# Altium integrated library Infineon_Power_MOSFET.IntLib: 1448 symbols (part 3 of 47)
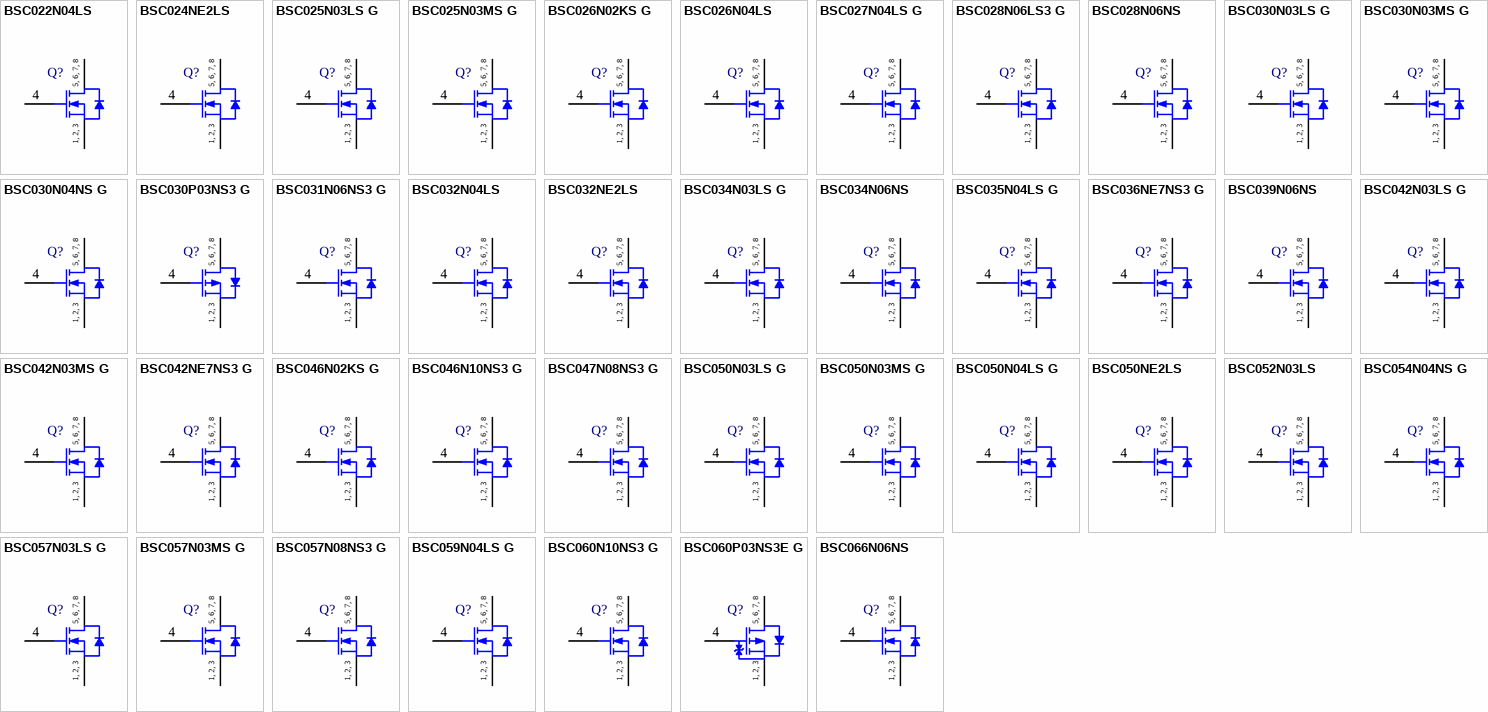
[diagram p39: symbols BSC022N04LS to BSC066N06NS]

## BSC046N02KS G
designator Q?
N-Channel OptiMOS 2 Power-Transistor, 20 V VDS, 80 A ID, -55 to 150 degC, PG-TDSON-8-1, Reel, Green; Manufacturer: Infineon; PartNumber: BSC046N02KS G; Green: TRUE; ID (max): 80 A; IDpuls (max): 200 A; Polarity: N; Ptot (max): 48 W; QG: 21 nC; RDS (on) (max) (@4.5V): 4.6 mOhm; Rth: 2.6 K/W; RthJA (max): 62 K/W; VDS (max): 20 V; VGS(th) (max): 1.2 V; VGS(th) (min): 0.7 V; DatasheetVersion: Rev. 1.06; PackageReference: PG-TDSON-8-1; PackageDescription: 8-Pin Plastic (Green) Thin Dual Small Outline Non-Leaded Package, 5.15 x 5.9 mm Body, 1.27 mm Pitch; Supplier 1: Mouser; Supplier Part Number 1: 726-BSC046N02KSG; Supplier 2: Newark; Supplier Part Number 2: 60R2491; Supplier 3: Farnell; Supplier Part Number 3: 1775442; Supplier 4: Digi-Key; Supplier Part Number 4: BSC046N02KS GTR-ND; Supplier 5: Digi-Key; Supplier Part Number 5: BSC046N02KS GCT-ND; Supplier 6: Digi-Key; Supplier Part Number 6: BSC046N02KS GDKR-ND; Halogen-free: TRUE; Packing: Reel; RthJC (max): 2.6 K/W; Mounting Technology: Surface Mount; ComponentLink1Description: Manufacturer URL; ComponentLink1URL: http://www.infineon.com/; ComponentLink2Description: Datasheet; ComponentLink2URL: http://www.infineon.com/dgdl/BSC046N02KS+G+Rev16.pdf?folderId=db3a3043163797a6011637c252b10018&fileId=db3a3043163797a6011637c34414001c; ComponentLink3Description: Package Specification; ComponentLink3URL: http://www.infineon.com/cms/packages/SMD_-_Surface_Mounted_Devices/P-PG-TDSON/P-PG-TDSON-08-01x_2x_3.html?__locale=en
footprint INF-PG-TDSON-8-1_V (TDSON, 8-Leads, Body 6.15x5.15mm, Pitch 1.27mm)
pins: 1 SOURCE, 2 SOURCE, 3 SOURCE, 4 GATE, 5 DRAIN, 6 DRAIN, 7 DRAIN, 8 DRAIN
text: 5, 6, 7, 8; 1, 2, 3

## BSC046N10NS3 G
designator Q?
N-Channel OptiMOS 3 Power-Transistor, 100 V VDS, 100 A ID, -55 to 150 degC, PG-TDSON-8-1, Reel, Green; Manufacturer: Infineon; PartNumber: BSC046N10NS3 G; Green: TRUE; ID (max): 100 A; IDpuls (max): 400 A; Polarity: N; Ptot (max): 156 W; QG: 63 nC; RDS (on) (max): 4.6 mOhm; Rth: 0.8 K/W; RthJA (max): 62 K/W; VDS (max): 100 V; VGS(th) (max): 3.5 V; VGS(th) (min): 2 V; DatasheetVersion: Rev. 2.0; PackageReference: PG-TDSON-8-1; PackageDescription: 8-Pin Plastic (Green) Thin Dual Small Outline Non-Leaded Package, 5.15 x 5.9 mm Body, 1.27 mm Pitch; Halogen-free: TRUE; Packing: Reel; RthJC (max): 0.8 K/W; Mounting Technology: Surface Mount; ComponentLink1Description: Manufacturer URL; ComponentLink1URL: http://www.infineon.com/; ComponentLink2Description: Datasheet; ComponentLink2URL: http://www.infineon.com/dgdl/BSC046N10NS3+Rev2.pdf?folderId=db3a304313b8b5a60113cee8763b02d7&fileId=db3a304332fc1ee7013316f966a4713c; ComponentLink3Description: Package Specification; ComponentLink3URL: http://www.infineon.com/cms/packages/SMD_-_Surface_Mounted_Devices/P-PG-TDSON/P-PG-TDSON-08-01x_2x_3.html?__locale=en
footprint INF-PG-TDSON-8-1_V (TDSON, 8-Leads, Body 6.15x5.15mm, Pitch 1.27mm)
pins: 1 SOURCE, 2 SOURCE, 3 SOURCE, 4 GATE, 5 DRAIN, 6 DRAIN, 7 DRAIN, 8 DRAIN
text: 5, 6, 7, 8; 1, 2, 3

## BSC047N08NS3 G
designator Q?
N-Channel OptiMOS 3 Power-Transistor, 80 V VDS, 100 A ID, -55 to 150 degC, PG-TDSON-8-1, Reel, Green; Manufacturer: Infineon; PartNumber: BSC047N08NS3 G; Green: TRUE; ID (max): 100 A; IDpuls (max): 400 A; Polarity: N; Ptot (max): 125 W; QG: 52 nC; RDS (on) (max): 4.7 mOhm; Rth: 1 K/W; RthJA (max): 62 K/W; VDS (max): 80 V; VGS(th) (max): 3.5 V; VGS(th) (min): 2 V; DatasheetVersion: Rev. 2.7; PackageReference: PG-TDSON-8-1; PackageDescription: 8-Pin Plastic (Green) Thin Dual Small Outline Non-Leaded Package, 5.15 x 5.9 mm Body, 1.27 mm Pitch; Supplier 1: Mouser; Supplier Part Number 1: 726-BSC047N08NS3G; Supplier 2: Newark; Supplier Part Number 2: 60R2492; Supplier 3: Farnell; Supplier Part Number 3: 1775444; Supplier 4: Digi-Key; Supplier Part Number 4: BSC047N08NS3 GTR-ND; Supplier 5: Digi-Key; Supplier Part Number 5: BSC047N08NS3 GCT-ND; Supplier 6: Digi-Key; Supplier Part Number 6: BSC047N08NS3 GDKR-ND; Halogen-free: TRUE; Packing: Reel; RthJC (max): 1 K/W; Mounting Technology: Surface Mount; ComponentLink1Description: Manufacturer URL; ComponentLink1URL: http://www.infineon.com/; ComponentLink2Description: Datasheet; ComponentLink2URL: http://www.infineon.com/dgdl/BSC047N08NS3G_rev2.7.pdf?folderId=db3a304313b8b5a60113cee7c66a02d6&fileId=db3a30431add1d95011ae7e8dacf5611; ComponentLink3Description: Package Specification; ComponentLink3URL: http://www.infineon.com/cms/packages/SMD_-_Surface_Mounted_Devices/P-PG-TDSON/P-PG-TDSON-08-01x_2x_3.html?__locale=en
footprint INF-PG-TDSON-8-1_V (TDSON, 8-Leads, Body 6.15x5.15mm, Pitch 1.27mm)
pins: 1 SOURCE, 2 SOURCE, 3 SOURCE, 4 GATE, 5 DRAIN, 6 DRAIN, 7 DRAIN, 8 DRAIN
text: 5, 6, 7, 8; 1, 2, 3

## BSC050N03LS G
designator Q?
N-Channel OptiMOS 3 Power-MOSFET, 30 V VDS, 79 A ID, -55 to 150 degC, PG-TDSON-8-1, Reel, Green; Manufacturer: Infineon; PartNumber: BSC050N03LS G; Green: TRUE; ID (max): 79 A; IDpuls (max): 316 A; Polarity: N; Ptot (max): 48 W; QG: 13 nC; RDS (on) (max): 5 mOhm; RDS (on) (max) (@4.5V): 7.5 mOhm; Rth: 2.6 K/W; RthJA (max): 50 K/W; VDS (max): 30 V; VGS(th) (max): 2.2 V; VGS(th) (min): 1 V; DatasheetVersion: Rev. 1.6; PackageReference: PG-TDSON-8-1; PackageDescription: 8-Pin Plastic (Green) Thin Dual Small Outline Non-Leaded Package, 5.15 x 5.9 mm Body, 1.27 mm Pitch; Supplier 1: Mouser; Supplier Part Number 1: 726-BSC050N03LSG; Supplier 2: Newark; Supplier Part Number 2: 60R2493; Supplier 3: Farnell; Supplier Part Number 3: 1775445; Supplier 4: Digi-Key; Supplier Part Number 4: BSC050N03LSGINTR-ND; Supplier 5: Digi-Key; Supplier Part Number 5: BSC050N03LSGINCT-ND; Supplier 6: Digi-Key; Supplier Part Number 6: BSC050N03LSGINDKR-ND; Halogen-free: TRUE; Packing: Reel; RthJC (max): 2.6 K/W; Mounting Technology: Surface Mount; ComponentLink1Description: Manufacturer URL; ComponentLink1URL: http://www.infineon.com/; ComponentLink2Description: Datasheet; ComponentLink2URL: http://www.infineon.com/dgdl/BSC050N03LS_rev1.6.pdf?folderId=db3a304412b407950112b408e8c90004&fileId=db3a304412b407950112b4276b953c2b; ComponentLink3Description: Package Specification; ComponentLink3URL: http://www.infineon.com/cms/packages/SMD_-_Surface_Mounted_Devices/P-PG-TDSON/P-PG-TDSON-08-01x_2x_3.html?__locale=en
footprint INF-PG-TDSON-8-1_V (TDSON, 8-Leads, Body 6.15x5.15mm, Pitch 1.27mm)
pins: 1 SOURCE, 2 SOURCE, 3 SOURCE, 4 GATE, 5 DRAIN, 6 DRAIN, 7 DRAIN, 8 DRAIN
text: 5, 6, 7, 8; 1, 2, 3

## BSC050N03MS G
designator Q?
N-Channel OptiMOS 3 M-Series Power-MOSFET, 30 V VDS, 80 A ID, -55 to 150 degC, PG-TDSON-8-1, Reel, Green; Manufacturer: Infineon; PartNumber: BSC050N03MS G; Green: TRUE; ID (max): 80 A; IDpuls (max): 320 A; Polarity: N; Ptot (max): 50 W; QG: 17 nC; RDS (on) (max): 5 mOhm; RDS (on) (max) (@4.5V): 6.3 mOhm; Rth: 2.5 K/W; RthJA (max): 50 K/W; VDS (max): 30 V; VGS(th) (max): 2 V; VGS(th) (min): 1 V; DatasheetVersion: Rev. 1.15; PackageReference: PG-TDSON-8-1; PackageDescription: 8-Pin Plastic (Green) Thin Dual Small Outline Non-Leaded Package, 5.15 x 5.9 mm Body, 1.27 mm Pitch; Supplier 1: Mouser; Supplier Part Number 1: 726-BSC050N03MSG; Supplier 2: Newark; Supplier Part Number 2: 60R2494; Supplier 3: Farnell; Supplier Part Number 3: 1775446; Supplier 4: Digi-Key; Supplier Part Number 4: BSC050N03MSGINTR-ND; Supplier 5: Digi-Key; Supplier Part Number 5: BSC050N03MSGINCT-ND; Supplier 6: Digi-Key; Supplier Part Number 6: BSC050N03MSGINDKR-ND; Halogen-free: TRUE; Packing: Reel; RthJC (max): 2.5 K/W; Mounting Technology: Surface Mount; ComponentLink1Description: Manufacturer URL; ComponentLink1URL: http://www.infineon.com/; ComponentLink2Description: Datasheet; ComponentLink2URL: http://www.infineon.com/dgdl/BSC050N03MSG_rev1.15.pdf?folderId=db3a304313d846880113d91d60c500c4&fileId=db3a304313d846880113de6677ab0373; ComponentLink3Description: Package Specification; ComponentLink3URL: http://www.infineon.com/cms/packages/SMD_-_Surface_Mounted_Devices/P-PG-TDSON/P-PG-TDSON-08-01x_2x_3.html?__locale=en
footprint INF-PG-TDSON-8-1_V (TDSON, 8-Leads, Body 6.15x5.15mm, Pitch 1.27mm)
pins: 1 SOURCE, 2 SOURCE, 3 SOURCE, 4 GATE, 5 DRAIN, 6 DRAIN, 7 DRAIN, 8 DRAIN
text: 5, 6, 7, 8; 1, 2, 3

## BSC050N04LS G
designator Q?
N-Channel OptiMOS 3 Power-Transistor, 40 V VDS, 85 A ID, -55 to 150 degC, PG-TDSON-8-1, Reel, Green; Manufacturer: Infineon; PartNumber: BSC050N04LS G; Green: TRUE; ID (max): 85 A; IDpuls (max): 340 A; Polarity: N; Ptot (max): 57 W; QG: 36 nC; RDS (on) (max): 5 mOhm; RDS (on) (max) (@4.5V): 7.2 mOhm; Rth: 2.2 K/W; RthJA (max): 50 K/W; VDS (max): 40 V; VGS(th) (max): 2 V; VGS(th) (min): 1.2 V; DatasheetVersion: Rev. 1.04; PackageReference: PG-TDSON-8-1; PackageDescription: 8-Pin Plastic (Green) Thin Dual Small Outline Non-Leaded Package, 5.15 x 5.9 mm Body, 1.27 mm Pitch; Supplier 1: Mouser; Supplier Part Number 1: 726-BSC050N04LSG; Supplier 2: Newark; Supplier Part Number 2: 60R2495; Supplier 3: Digi-Key; Supplier Part Number 3: BSC050N04LS GTR-ND; Supplier 4: Digi-Key; Supplier Part Number 4: BSC050N04LS GCT-ND; Supplier 5: Digi-Key; Supplier Part Number 5: BSC050N04LS GDKR-ND; Halogen-free: TRUE; Packing: Reel; RthJC (max): 2.2 K/W; Mounting Technology: Surface Mount; ComponentLink1Description: Manufacturer URL; ComponentLink1URL: http://www.infineon.com/; ComponentLink2Description: Datasheet; ComponentLink2URL: http://www.infineon.com/dgdl/BSC050N04LSG_rev14.pdf?folderId=db3a3043156fd5730115c7d50620107c&fileId=db3a30431689f4420116c4440ee3081c; ComponentLink3Description: Package Specification; ComponentLink3URL: http://www.infineon.com/cms/packages/SMD_-_Surface_Mounted_Devices/P-PG-TDSON/P-PG-TDSON-08-01x_2x_3.html?__locale=en
footprint INF-PG-TDSON-8-1_V (TDSON, 8-Leads, Body 6.15x5.15mm, Pitch 1.27mm)
pins: 1 SOURCE, 2 SOURCE, 3 SOURCE, 4 GATE, 5 DRAIN, 6 DRAIN, 7 DRAIN, 8 DRAIN
text: 5, 6, 7, 8; 1, 2, 3

## BSC050NE2LS
designator Q?
N-Channel OptiMOS Power-MOSFET, 25 V VDS, 58 A ID, -55 to 150 degC, PG-TDSON-8-1, Reel, Green; Manufacturer: Infineon; PartNumber: BSC050NE2LS; Green: TRUE; ID (max): 58 A; IDpuls (max): 232 A; Polarity: N; Ptot (max): 28 W; QG: 5 nC; RDS (on) (max): 5 mOhm; RDS (on) (max) (@4.5V): 7.1 mOhm; Rth: 4.5 K/W; RthJA (max): 50 K/W; VDS (max): 25 V; VGS(th) (max): 2 V; VGS(th) (min): 1.2 V; DatasheetVersion: Rev. 2.1; PackageReference: PG-TDSON-8-1; PackageDescription: 8-Pin Plastic (Green) Thin Dual Small Outline Non-Leaded Package, 5.15 x 5.9 mm Body, 1.27 mm Pitch; Supplier 1: Mouser; Supplier Part Number 1: 726-BSC050NE2LS; Supplier 2: Digi-Key; Supplier Part Number 2: BSC050NE2LSTR-ND; Supplier 3: Digi-Key; Supplier Part Number 3: BSC050NE2LSCT-ND; Supplier 4: Digi-Key; Supplier Part Number 4: BSC050NE2LSDKR-ND; Halogen-free: TRUE; Packing: Reel; RthJC (max): 4.5 K/W; Mounting Technology: Surface Mount; ComponentLink1Description: Manufacturer URL; ComponentLink1URL: http://www.infineon.com/; ComponentLink2Description: Datasheet; ComponentLink2URL: http://www.infineon.com/dgdl/BSC050NE2LS_Rev+2.1_.pdf?folderId=db3a304326dfb1300126fb3bec803f1a&fileId=db3a304326dfb1300126fb5ce0cb3f2d; ComponentLink3Description: Package Specification; ComponentLink3URL: http://www.infineon.com/cms/packages/SMD_-_Surface_Mounted_Devices/P-PG-TDSON/P-PG-TDSON-08-01x_2x_3.html?__locale=en
footprint INF-PG-TDSON-8-1_V (TDSON, 8-Leads, Body 6.15x5.15mm, Pitch 1.27mm)
pins: 1 SOURCE, 2 SOURCE, 3 SOURCE, 4 GATE, 5 DRAIN, 6 DRAIN, 7 DRAIN, 8 DRAIN
text: 5, 6, 7, 8; 1, 2, 3

## BSC052N03LS
designator Q?
N-Channel OptiMOS Power-MOSFET, 30 V VDS, 57 A ID, -55 to 150 degC, PG-TDSON-8-1, Reel, Green; Manufacturer: Infineon; PartNumber: BSC052N03LS; Green: TRUE; ID (max): 57 A; IDpuls (max): 228 A; Polarity: N; Ptot (max): 28 W; QG: 5.9 nC; RDS (on) (max): 5.2 mOhm; RDS (on) (max) (@4.5V): 7.2 mOhm; Rth: 4.5 K/W; RthJA (max): 50 K/W; VDS (max): 30 V; VGS(th) (max): 2 V; VGS(th) (min): 1.2 V; DatasheetVersion: Rev. 2.1; PackageReference: PG-TDSON-8-1; PackageDescription: 8-Pin Plastic (Green) Thin Dual Small Outline Non-Leaded Package, 5.15 x 5.9 mm Body, 1.27 mm Pitch; Supplier 1: Mouser; Supplier Part Number 1: 726-BSC052N03LS; Supplier 2: Digi-Key; Supplier Part Number 2: BSC052N03LSTR-ND; Supplier 3: Digi-Key; Supplier Part Number 3: BSC052N03LSCT-ND; Supplier 4: Digi-Key; Supplier Part Number 4: BSC052N03LSDKR-ND; Halogen-free: TRUE; Packing: Reel; RthJC (max): 4.5 K/W; Mounting Technology: Surface Mount; ComponentLink1Description: Manufacturer URL; ComponentLink1URL: http://www.infineon.com/; ComponentLink2Description: Datasheet; ComponentLink2URL: http://www.infineon.com/dgdl/BSC052N03LS_Rev+2.1.pdf?folderId=db3a304313b8b5a60113cee8763b02d7&fileId=db3a30432c64a60d012cbc1084350363; ComponentLink3Description: Package Specification; ComponentLink3URL: http://www.infineon.com/cms/packages/SMD_-_Surface_Mounted_Devices/P-PG-TDSON/P-PG-TDSON-08-01x_2x_3.html?__locale=en
footprint INF-PG-TDSON-8-1_V (TDSON, 8-Leads, Body 6.15x5.15mm, Pitch 1.27mm)
pins: 1 SOURCE, 2 SOURCE, 3 SOURCE, 4 GATE, 5 DRAIN, 6 DRAIN, 7 DRAIN, 8 DRAIN
text: 5, 6, 7, 8; 1, 2, 3

## BSC054N04NS G
designator Q?
N-Channel OptiMOS 3 Power-Transistor, 40 V VDS, 81 A ID, -55 to 150 degC, PG-TDSON-8-1, Reel, Green; Manufacturer: Infineon; PartNumber: BSC054N04NS G; Green: TRUE; ID (max): 81 A; IDpuls (max): 324 A; Polarity: N; Ptot (max): 57 mW; QG: 26 nC; RDS (on) (max): 5.4 mOhm; Rth: 2.2 K/W; RthJA (max): 50 K/W; VDS (max): 40 V; VGS(th) (max): 4 V; VGS(th) (min): 2 V; DatasheetVersion: Rev. 1.04; PackageReference: PG-TDSON-8-1; PackageDescription: 8-Pin Plastic (Green) Thin Dual Small Outline Non-Leaded Package, 5.15 x 5.9 mm Body, 1.27 mm Pitch; Supplier 1: Mouser; Supplier Part Number 1: 726-BSC054N04NSG; Supplier 2: Newark; Supplier Part Number 2: 60R2496; Supplier 3: Farnell; Supplier Part Number 3: 1775448; Supplier 4: Digi-Key; Supplier Part Number 4: BSC054N04NS GTR-ND; Supplier 5: Digi-Key; Supplier Part Number 5: BSC054N04NS GCT-ND; Supplier 6: Digi-Key; Supplier Part Number 6: BSC054N04NS GDKR-ND; Halogen-free: TRUE; Packing: Reel; RthJC (max): 2.2 K/W; Mounting Technology: Surface Mount; ComponentLink1Description: Manufacturer URL; ComponentLink1URL: http://www.infineon.com/; ComponentLink2Description: Datasheet; ComponentLink2URL: http://www.infineon.com/dgdl/BSC054N04NSG_rev14.pdf?folderId=db3a3043156fd5730115c7d50620107c&fileId=db3a30431689f4420116c46167a0083c; ComponentLink3Description: Package Specification; ComponentLink3URL: http://www.infineon.com/cms/packages/SMD_-_Surface_Mounted_Devices/P-PG-TDSON/P-PG-TDSON-08-01x_2x_3.html?__locale=en
footprint INF-PG-TDSON-8-1_V (TDSON, 8-Leads, Body 6.15x5.15mm, Pitch 1.27mm)
pins: 1 SOURCE, 2 SOURCE, 3 SOURCE, 4 GATE, 5 DRAIN, 6 DRAIN, 7 DRAIN, 8 DRAIN
text: 5, 6, 7, 8; 1, 2, 3

## BSC057N03LS G
designator Q?
N-Channel OptiMOS 3 Power-MOSFET, 30 V VDS, 71 A ID, -55 to 150 degC, PG-TDSON-8-1, Reel, Green; Manufacturer: Infineon; PartNumber: BSC057N03LS G; Green: TRUE; ID (max): 71 A; IDpuls (max): 284 A; Polarity: N; Ptot (max): 45 W; QG: 11 nC; RDS (on) (max): 5.7 mOhm; RDS (on) (max) (@4.5V): 8.5 mOhm; Rth: 2.8 K/W; RthJA (max): 50 K/W; VDS (max): 30 V; VGS(th) (max): 2.2 V; VGS(th) (min): 1 V; DatasheetVersion: Rev. 1.6; PackageReference: PG-TDSON-8-1; PackageDescription: 8-Pin Plastic (Green) Thin Dual Small Outline Non-Leaded Package, 5.15 x 5.9 mm Body, 1.27 mm Pitch; Supplier 1: Mouser; Supplier Part Number 1: 726-BSC057N03LSG; Supplier 2: Newark; Supplier Part Number 2: 60R2497; Supplier 3: Farnell; Supplier Part Number 3: 1775449; Supplier 4: Digi-Key; Supplier Part Number 4: BSC057N03LSGINTR-ND; Supplier 5: Digi-Key; Supplier Part Number 5: BSC057N03LSGINCT-ND; Supplier 6: Digi-Key; Supplier Part Number 6: BSC057N03LSGINDKR-ND; Halogen-free: TRUE; Packing: Reel; RthJC (max): 2.8 K/W; Mounting Technology: Surface Mount; ComponentLink1Description: Manufacturer URL; ComponentLink1URL: http://www.infineon.com/; ComponentLink2Description: Datasheet; ComponentLink2URL: http://www.infineon.com/dgdl/BSC057N03LS_rev1.6.pdf?folderId=db3a304412b407950112b408e8c90004&fileId=db3a304412b407950112b4274af23bf7; ComponentLink3Description: Package Specification; ComponentLink3URL: http://www.infineon.com/cms/packages/SMD_-_Surface_Mounted_Devices/P-PG-TDSON/P-PG-TDSON-08-01x_2x_3.html?__locale=en
footprint INF-PG-TDSON-8-1_V (TDSON, 8-Leads, Body 6.15x5.15mm, Pitch 1.27mm)
pins: 1 SOURCE, 2 SOURCE, 3 SOURCE, 4 GATE, 5 DRAIN, 6 DRAIN, 7 DRAIN, 8 DRAIN
text: 5, 6, 7, 8; 1, 2, 3

## BSC057N03MS G
designator Q?
N-Channel OptiMOS 3 M-Series Power-MOSFET, 30 V VDS, 71 A ID, -55 to 150 degC, PG-TDSON-8-1, Reel, Green; Manufacturer: Infineon; PartNumber: BSC057N03MS G; Green: TRUE; ID (max): 71 A; IDpuls (max): 284 A; Polarity: N; Ptot (max): 45 W; QG: 14 nC; RDS (on) (max): 5.7 mOhm; RDS (on) (max) (@4.5V): 7.2 mOhm; Rth: 2.8 K/W; RthJA (max): 50 K/W; VDS (max): 30 V; VGS(th) (max): 2 V; VGS(th) (min): 1 V; DatasheetVersion: Rev. 1.15; PackageReference: PG-TDSON-8-1; PackageDescription: 8-Pin Plastic (Green) Thin Dual Small Outline Non-Leaded Package, 5.15 x 5.9 mm Body, 1.27 mm Pitch; Supplier 1: Mouser; Supplier Part Number 1: 726-BSC057N03MSG; Supplier 2: Newark; Supplier Part Number 2: 60R2498; Supplier 3: Digi-Key; Supplier Part Number 3: BSC057N03MSGINTR-ND; Supplier 4: Digi-Key; Supplier Part Number 4: BSC057N03MSGINCT-ND; Supplier 5: Digi-Key; Supplier Part Number 5: BSC057N03MSGINDKR-ND; Halogen-free: TRUE; Packing: Reel; RthJC (max): 2.8 K/W; Mounting Technology: Surface Mount; ComponentLink1Description: Manufacturer URL; ComponentLink1URL: http://www.infineon.com/; ComponentLink2Description: Datasheet; ComponentLink2URL: http://www.infineon.com/dgdl/BSC057N03MSG_rev1.15.pdf?folderId=db3a304313d846880113d91d60c500c4&fileId=db3a304313d846880113de68c6ce037a; ComponentLink3Description: Package Specification; ComponentLink3URL: http://www.infineon.com/cms/packages/SMD_-_Surface_Mounted_Devices/P-PG-TDSON/P-PG-TDSON-08-01x_2x_3.html?__locale=en
footprint INF-PG-TDSON-8-1_V (TDSON, 8-Leads, Body 6.15x5.15mm, Pitch 1.27mm)
pins: 1 SOURCE, 2 SOURCE, 3 SOURCE, 4 GATE, 5 DRAIN, 6 DRAIN, 7 DRAIN, 8 DRAIN
text: 5, 6, 7, 8; 1, 2, 3

## BSC057N08NS3 G
designator Q?
N-Channel OptiMOS 3 Power-Transistor, 80 V VDS, 100 A ID, -55 to 150 degC, PG-TDSON-8-1, Reel, Green; Manufacturer: Infineon; PartNumber: BSC057N08NS3 G; Green: TRUE; ID (max): 100 A; IDpuls (max): 400 A; Polarity: N; Ptot (max): 114 W; QG: 42 nC; RDS (on) (max): 5.7 mOhm; Rth: 1.1 K/W; RthJA (max): 62 K/W; VDS (max): 80 V; VGS(th) (max): 3.5 V; VGS(th) (min): 2 V; DatasheetVersion: Rev. 2.4; PackageReference: PG-TDSON-8-1; PackageDescription: 8-Pin Plastic (Green) Thin Dual Small Outline Non-Leaded Package, 5.15 x 5.9 mm Body, 1.27 mm Pitch; Supplier 1: Mouser; Supplier Part Number 1: 726-BSC057N08NS3G; Supplier 2: Newark; Supplier Part Number 2: 79X1332; Supplier 3: Farnell; Supplier Part Number 3: 2432707; Supplier 4: Digi-Key; Supplier Part Number 4: BSC057N08NS3 GTR-ND; Supplier 5: Digi-Key; Supplier Part Number 5: BSC057N08NS3 GCT-ND; Supplier 6: Digi-Key; Supplier Part Number 6: BSC057N08NS3 GDKR-ND; Halogen-free: TRUE; Packing: Reel; RthJC (max): 1.1 K/W; Mounting Technology: Surface Mount; ComponentLink1Description: Manufacturer URL; ComponentLink1URL: http://www.infineon.com/; ComponentLink2Description: Datasheet; ComponentLink2URL: http://www.infineon.com/dgdl/BSC057N08NS3G_rev2.4.pdf?folderId=db3a304313b8b5a60113cee8763b02d7&fileId=db3a30431add1d95011ae803c9345616; ComponentLink3Description: Package Specification; ComponentLink3URL: http://www.infineon.com/cms/packages/SMD_-_Surface_Mounted_Devices/P-PG-TDSON/P-PG-TDSON-08-01x_2x_3.html?__locale=en
footprint INF-PG-TDSON-8-1_V (TDSON, 8-Leads, Body 6.15x5.15mm, Pitch 1.27mm)
pins: 1 SOURCE, 2 SOURCE, 3 SOURCE, 4 GATE, 5 DRAIN, 6 DRAIN, 7 DRAIN, 8 DRAIN
text: 5, 6, 7, 8; 1, 2, 3

## BSC059N04LS G
designator Q?
N-Channel OptiMOS 3 Power-Transistor, 40 V VDS, 73 A ID, -55 to 150 degC, PG-TDSON-8-1, Reel, Green; Manufacturer: Infineon; PartNumber: BSC059N04LS G; Green: TRUE; ID (max): 73 A; IDpuls (max): 292 A; Polarity: N; Ptot (max): 50 W; QG: 14 nC; RDS (on) (max): 5.9 mOhm; RDS (on) (max) (@4.5V): 8.5 mOhm; Rth: 2.5 K/W; RthJA (max): 50 K/W; VDS (max): 40 V; VGS(th) (max): 2 V; VGS(th) (min): 1.2 V; DatasheetVersion: Rev. 1.04; PackageReference: PG-TDSON-8-1; PackageDescription: 8-Pin Plastic (Green) Thin Dual Small Outline Non-Leaded Package, 5.15 x 5.9 mm Body, 1.27 mm Pitch; Supplier 1: Mouser; Supplier Part Number 1: 726-BSC059N04LSG; Supplier 2: Newark; Supplier Part Number 2: 60R2499; Supplier 3: Farnell; Supplier Part Number 3: 1775451; Supplier 4: Digi-Key; Supplier Part Number 4: BSC059N04LS GTR-ND; Supplier 5: Digi-Key; Supplier Part Number 5: BSC059N04LS GCT-ND; Supplier 6: Digi-Key; Supplier Part Number 6: BSC059N04LS GDKR-ND; Halogen-free: TRUE; Packing: Reel; RthJC (max): 2.5 K/W; Mounting Technology: Surface Mount; ComponentLink1Description: Manufacturer URL; ComponentLink1URL: http://www.infineon.com/; ComponentLink2Description: Datasheet; ComponentLink2URL: http://www.infineon.com/dgdl/BSC059N04LSG_rev14.pdf?folderId=db3a3043156fd5730115c7d50620107c&fileId=db3a30431689f4420116c4481e4b081f; ComponentLink3Description: Package Specification; ComponentLink3URL: http://www.infineon.com/cms/packages/SMD_-_Surface_Mounted_Devices/P-PG-TDSON/P-PG-TDSON-08-01x_2x_3.html?__locale=en
footprint INF-PG-TDSON-8-1_V (TDSON, 8-Leads, Body 6.15x5.15mm, Pitch 1.27mm)
pins: 1 SOURCE, 2 SOURCE, 3 SOURCE, 4 GATE, 5 DRAIN, 6 DRAIN, 7 DRAIN, 8 DRAIN
text: 5, 6, 7, 8; 1, 2, 3

## BSC060N10NS3 G
designator Q?
N-Channel OptiMOS 3 Power-Transistor, 100 V VDS, 90 A ID, -55 to 150 degC, PG-TDSON-8-1, Reel, Green; Manufacturer: Infineon; PartNumber: BSC060N10NS3 G; Green: TRUE; ID (max): 90 A; IDpuls (max): 360 A; Polarity: N; Ptot (max): 125 W; QG: 51 nC; RDS (on) (max): 6 mOhm; Rth: 1 K/W; RthJA (max): 50 K/W; VDS (max): 100 V; VGS(th) (max): 3.5 V; VGS(th) (min): 2 V; DatasheetVersion: Rev. 2.4; PackageReference: PG-TDSON-8-1; PackageDescription: 8-Pin Plastic (Green) Thin Dual Small Outline Non-Leaded Package, 5.15 x 5.9 mm Body, 1.27 mm Pitch; Supplier 1: Mouser; Supplier Part Number 1: 726-BSC060N10NS3G; Supplier 2: Newark; Supplier Part Number 2: 79X1333; Supplier 3: Farnell; Supplier Part Number 3: 2432708; Supplier 4: Digi-Key; Supplier Part Number 4: BSC060N10NS3 GTR-ND; Supplier 5: Digi-Key; Supplier Part Number 5: BSC060N10NS3 GCT-ND; Supplier 6: Digi-Key; Supplier Part Number 6: BSC060N10NS3 GDKR-ND; Halogen-free: TRUE; Packing: Reel; RthJC (max): 1 K/W; Mounting Technology: Surface Mount; ComponentLink1Description: Manufacturer URL; ComponentLink1URL: http://www.infineon.com/; ComponentLink2Description: Datasheet; ComponentLink2URL: http://www.infineon.com/dgdl/BSC060N10NS3+Rev2.4.pdf?folderId=db3a304313b8b5a60113cee8763b02d7&fileId=db3a30431ce5fb52011d1aab7f90133a; ComponentLink3Description: Package Specification; ComponentLink3URL: http://www.infineon.com/cms/packages/SMD_-_Surface_Mounted_Devices/P-PG-TDSON/P-PG-TDSON-08-01x_2x_3.html?__locale=en
footprint INF-PG-TDSON-8-1_V (TDSON, 8-Leads, Body 6.15x5.15mm, Pitch 1.27mm)
pins: 1 SOURCE, 2 SOURCE, 3 SOURCE, 4 GATE, 5 DRAIN, 6 DRAIN, 7 DRAIN, 8 DRAIN
text: 5, 6, 7, 8; 1, 2, 3

## BSC060P03NS3E G
designator Q?
P-Channel OptiMOS P3 Power-Transistor, -30 V VDS, -100 A ID, -55 to 150 degC, PG-TDSON-8-1, Reel, Green; Manufacturer: Infineon; PartNumber: BSC060P03NS3E G; Green: TRUE; ID (max): -100 A; IDpuls (max): -200 A; Pto t (max): 83 W; QG: 61 nC; RDS (on) (max): 6 mOhm; Rth: 1.5 K/W; VDS (max): -30 V; VGS(th) (max): -1.9 V; VGS(th) (min): -3.1 V; DatasheetVersion: Rev. 2.1; PackageReference: PG-TDSON-8-1; PackageDescription: 8-Pin Plastic (Green) Thin Dual Small Outline Non-Leaded Package, 5.15 x 5.9 mm Body, 1.27 mm Pitch; Supplier 1: Mouser; Supplier Part Number 1: 726-BSC060P03NS3EG; Supplier 2: Newark; Supplier Part Number 2: 79X1334; Supplier 3: Farnell; Supplier Part Number 3: 2432709; Supplier 4: Digi-Key; Supplier Part Number 4: BSC060P03NS3E GTR-ND; Supplier 5: Digi-Key; Supplier Part Number 5: BSC060P03NS3E GCT-ND; Supplier 6: Digi-Key; Supplier Part Number 6: BSC060P03NS3E GDKR-ND; Halogen-free: TRUE; Packing: Reel; RthJC (max): 1.5 K/W; Mounting Technology: Surface Mount; ComponentLink1Description: Manufacturer URL; ComponentLink1URL: http://www.infineon.com/; ComponentLink2Description: Datasheet; ComponentLink2URL: http://www.infineon.com/dgdl/BSC060P03NS3E+G_2.1.pdf?folderId=db3a304314dca38901154a72e3951a65&fileId=db3a304320896aa20120adcbe71367cb; ComponentLink3Description: Package Specification; ComponentLink3URL: http://www.infineon.com/cms/packages/SMD_-_Surface_Mounted_Devices/P-PG-TDSON/P-PG-TDSON-08-01x_2x_3.html?__locale=en
footprint INF-PG-TDSON-8-1_V (TDSON, 8-Leads, Body 6.15x5.15mm, Pitch 1.27mm)
pins: 1 S, 2 S, 3 S, 4 G, 5 D, 6 D, 7 D, 8 D
text: 5, 6, 7, 8; 1, 2, 3

## BSC066N06NS
designator Q?
N-Channel OptiMOS(TM) Power-Transistor, 60 V VDS, 64 A ID, -55 to 150 degC, PG-TDSON-8, Reel, Green; Manufacturer: Infineon; PartNumber: BSC066N06NS; Green: TRUE; ID (max): 64 A; IDpuls (max): 256 A; Polarity: N; Ptot (max): 46 W; QG: 17 nc; RDS (on) (max): 6.6 mOhm; RthJA (max): 50 K/W; RthJC (max): 2.7 K/W; VDS (max): 60 V; VGS(th) (max): 3.3 V; VGS(th) (min): 2.1 V; DatasheetVersion: Rev. 2.0; PackageVersion: Rev. 04, 04/2013; PackageReference: PG-TDSON-8-04; PackageDescription: 8-Pin Plastic (Green) Thin Dual Small Outline Non-Leaded Package, 5.9 x 5.15 mm Body, 1.27 mm Pitch; Supplier 1: Mouser; Supplier Part Number 1: N/A; Halogen-free: TRUE; Mounting: SMD; Packing: Reel; Technology: OptiMOS(TM); Mounting Technology: Surface Mount; ComponentLink1Description: Manufacturer URL; ComponentLink1URL: http://www.infineon.com/; ComponentLink2Description: Datasheet; ComponentLink2URL: http://www.infineon.com/dgdl/BSC066N06NS_Rev2.0.pdf?folderId=db3a304313b8b5a60113cee8763b02d7&fileId=db3a304342371bb001424c7d40ef70ec; ComponentLink3Description: Package Specification; ComponentLink3URL: http://www.infineon.com/dgdl/BSC019N04LS_rev2.0.pdf?folderId=db3a304313b8b5a60113cee8763b02d7&fileId=db3a304342371bb001424b8aca0c6fc4
footprint INF-PG-TDSON-8-04_V (SON, 8-Leads, Body 5.9x5.15mm, Pitch 1.27mm)
pins: 1 SOURCE, 2 SOURCE, 3 SOURCE, 4 GATE, 5 DRAIN, 6 DRAIN, 7 DRAIN, 8 DRAIN
text: 5, 6, 7, 8; 1, 2, 3

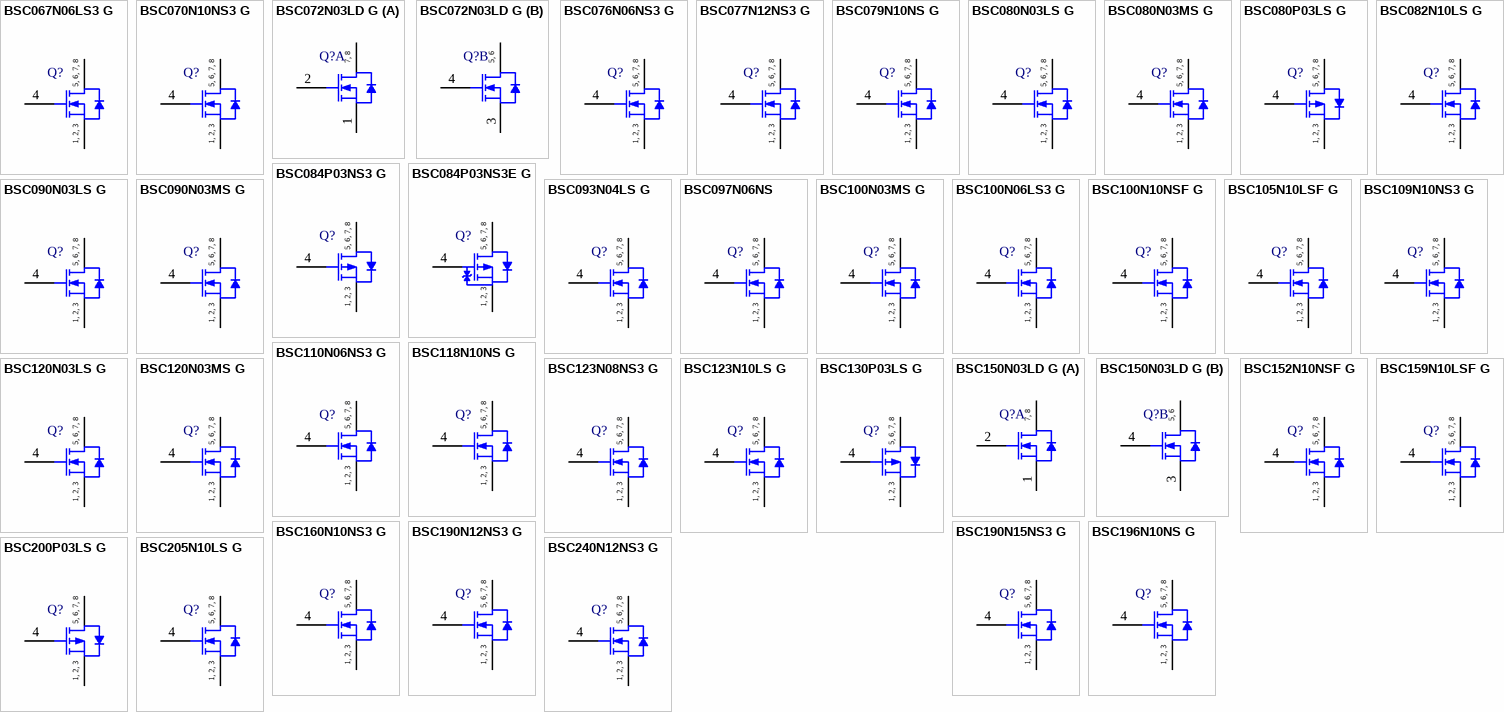
[diagram p2: symbols BSC067N06LS3 G to BSC240N12NS3 G]

## BSC067N06LS3 G
designator Q?
N-Channel OptiMOS 3 Power-Transistor, 60 V VDS, 50 A ID, -55 to 150 degC, PG-TDSON-8-1, Reel, Green; Manufacturer: Infineon; PartNumber: BSC067N06LS3 G; Green: TRUE; ID (max): 50 A; IDpuls (max): 200 A; Polarity: N; Ptot (max): 69 W; QG: 23 nC; RDS (on) (max): 6.7 mOhm; RDS (on) (max) (@4.5V): 12.1 mOhm; Rth: 1.8 K/W; RthJA (max): 62 K/W; VDS (max): 60 V; VGS(th) (max): 2.2 V; VGS(th) (min): 1.2 V; DatasheetVersion: Rev. 2.2; PackageReference: PG-TDSON-8-1; PackageDescription: 8-Pin Plastic (Green) Thin Dual Small Outline Non-Leaded Package, 5.15 x 5.9 mm Body, 1.27 mm Pitch; Supplier 1: Mouser; Supplier Part Number 1: 726-BSC067N06LS3G; Supplier 2: Newark; Supplier Part Number 2: 47W3309; Supplier 3: Farnell; Supplier Part Number 3: 2212831; Supplier 4: Digi-Key; Supplier Part Number 4: BSC067N06LS3 GINTR-ND; Supplier 5: Digi-Key; Supplier Part Number 5: BSC067N06LS3 GINCT-ND; Supplier 6: Digi-Key; Supplier Part Number 6: BSC067N06LS3 GINDKR-ND; Halogen-free: TRUE; Packing: Reel; RthJC (max): 1.8 K/W; Mounting Technology: Surface Mount; ComponentLink1Description: Manufacturer URL; ComponentLink1URL: http://www.infineon.com/; ComponentLink2Description: Datasheet; ComponentLink2URL: http://www.infineon.com/dgdl/BSC067N06LS3_rev2.2.pdf?folderId=db3a30431ddc9372011ebafa04517f8b&fileId=db3a30431ddc9372011ebb01e1b37fb6; ComponentLink3Description: Package Specification; ComponentLink3URL: http://www.infineon.com/cms/packages/SMD_-_Surface_Mounted_Devices/P-PG-TDSON/P-PG-TDSON-08-01x_2x_3.html?__locale=en
footprint INF-PG-TDSON-8-1_V (TDSON, 8-Leads, Body 6.15x5.15mm, Pitch 1.27mm)
pins: 1 SOURCE, 2 SOURCE, 3 SOURCE, 4 GATE, 5 DRAIN, 6 DRAIN, 7 DRAIN, 8 DRAIN
text: 5, 6, 7, 8; 1, 2, 3

## BSC070N10NS3 G
designator Q?
N-Channel OptiMOS 3 Power-Transistor, 100 V VDS, 90 A ID, -55 to 150 degC, PG-TDSON-8-1, Reel, Green; Manufacturer: Infineon; PartNumber: BSC070N10NS3 G; Green: TRUE; ID (max): 90 A; IDpuls (max): 360 A; Polarity: N; Ptot (max): 114 W; QG: 42 nC; RDS (on) (max): 7 mOhm; Rth: 1.1 K/W; RthJA (max): 50 K/W; VDS (max): 100 V; VGS(th) (max): 3.5 V; VGS(th) (min): 2 V; DatasheetVersion: Rev. 2.0; PackageReference: PG-TDSON-8-1; PackageDescription: 8-Pin Plastic (Green) Thin Dual Small Outline Non-Leaded Package, 5.15 x 5.9 mm Body, 1.27 mm Pitch; Supplier 1: Mouser; Supplier Part Number 1: 726-BSC070N10NS3G; Supplier 2: Digi-Key; Supplier Part Number 2: BSC070N10NS3 GTR-ND; Supplier 3: Digi-Key; Supplier Part Number 3: BSC070N10NS3 GCT-ND; Supplier 4: Digi-Key; Supplier Part Number 4: BSC070N10NS3 GDKR-ND; Halogen-free: TRUE; Packing: Reel; RthJC (max): 1.1 K/W; Mounting Technology: Surface Mount; ComponentLink1Description: Manufacturer URL; ComponentLink1URL: http://www.infineon.com/; ComponentLink2Description: Datasheet; ComponentLink2URL: http://www.infineon.com/dgdl/BSC070N10NS3+Rev2+1.pdf?folderId=db3a304313b8b5a60113cee8763b02d7&fileId=db3a304327b89750012824712c6c6f2f; ComponentLink3Description: Package Specification; ComponentLink3URL: http://www.infineon.com/cms/packages/SMD_-_Surface_Mounted_Devices/P-PG-TDSON/P-PG-TDSON-08-01x_2x_3.html?__locale=en
footprint INF-PG-TDSON-8-1_V (TDSON, 8-Leads, Body 6.15x5.15mm, Pitch 1.27mm)
pins: 1 SOURCE, 2 SOURCE, 3 SOURCE, 4 GATE, 5 DRAIN, 6 DRAIN, 7 DRAIN, 8 DRAIN
text: 5, 6, 7, 8; 1, 2, 3

## BSC072N03LD G
designator Q?
N-Channel OptiMOS 3 Power-Transistors, 30 V VDS, 20 A ID, -55 to 150 degC, PG-TDSON-8-4, Reel, Green; Manufacturer: Infineon; PartNumber: BSC072N03LD G; Green: TRUE; ID (max): 20 A; IDpuls (max): 80 A; Polarity: N; Ptot (max): 57 W; QG: 15 nC; RDS (on) (max): 7.2 mOhm; RDS (on) (max) (@4.5V): 9.4 mOhm; Rth: 2.2 K/W; RthJA (max): 85 K/W; VDS (max): 30 V; VGS(th) (max): 2.2 V; VGS(th) (min): 1 V; DatasheetVersion: Rev. 1.4; PackageVersion: Rev. 03; PackageReference: PG-TDSON-8-4; PackageDescription: 8-Pin Plastic (Green) Thin Dual Small Outline Non-Leaded Package, 5.15 x 5.9 mm Body, 1.27 mm Pitch; Supplier 1: Mouser; Supplier Part Number 1: 726-BSC072N03LDG; Supplier 2: Digi-Key; Supplier Part Number 2: BSC072N03LD GTR-ND; Supplier 3: Digi-Key; Supplier Part Number 3: BSC072N03LD GCT-ND; Supplier 4: Digi-Key; Supplier Part Number 4: BSC072N03LD GDKR-ND; Halogen-free: TRUE; Packing: Reel; RthJC (max): 2.2 K/W; Mounting Technology: Surface Mount; ComponentLink1Description: Manufacturer URL; ComponentLink1URL: http://www.infineon.com/; ComponentLink2Description: Datasheet; ComponentLink2URL: http://www.infineon.com/dgdl/BSC072N03LD_rev1.4.pdf?folderId=db3a304313b8b5a60113cee8ed2a02db&fileId=db3a304316f66ee80116fb4baac2728e; ComponentLink3Description: Package Specification; ComponentLink3URL: http://www.infineon.com/cms/packages/SMD_-_Surface_Mounted_Devices/P-PG-TDSON/P-PG-TDSON-08-04.html?__locale=en
footprint INF-PG-TDSON-8-4_V (SON, 8-Leads, Body 5.9x5.15mm, Pitch 1.27mm)
part A pins: 1 S1, 2 G1, 7 D1, 8 D1
part B pins: 3 S2, 4 G2, 5 D2, 6 D2
part A text: 7, 8
part B text: 5, 6

## BSC076N06NS3 G
designator Q?
N-Channel OptiMOS 3 Power-Transistor, 60 V VDS, 50 A ID, -55 to 150 degC, PG-TDSON-8-1, Reel, Green; Manufacturer: Infineon; PartNumber: BSC076N06NS3 G; Green: TRUE; ID (max): 50 A; IDpuls (max): 200 A; Polarity: N; Ptot (max): 69 W; QG: 37 nC; RDS (on) (max): 7.6 mOhm; Rth: 1.8 K/W; RthJA (max): 50 K/W; VDS (max): 60 V; VGS(th) (max): 4 V; VGS(th) (min): 2 V; DatasheetVersion: Rev. 2.3; PackageReference: PG-TDSON-8-1; PackageDescription: 8-Pin Plastic (Green) Thin Dual Small Outline Non-Leaded Package, 5.15 x 5.9 mm Body, 1.27 mm Pitch; Supplier 1: Mouser; Supplier Part Number 1: 726-BSC076N06NS3G; Supplier 2: Digi-Key; Supplier Part Number 2: BSC076N06NS3 GTR-ND; Supplier 3: Digi-Key; Supplier Part Number 3: BSC076N06NS3 GCT-ND; Supplier 4: Digi-Key; Supplier Part Number 4: BSC076N06NS3 GDKR-ND; Halogen-free: TRUE; Packing: Reel; RthJC (max): 1.8 K/W; Mounting Technology: Surface Mount; ComponentLink1Description: Manufacturer URL; ComponentLink1URL: http://www.infineon.com/; ComponentLink2Description: Datasheet; ComponentLink2URL: http://www.infineon.com/dgdl/BSC076N06NS3_Rev2.3.pdf?folderId=db3a30431ddc9372011ebafa04517f8b&fileId=db3a30431ddc9372011ebb04d68c7fc7; ComponentLink3Description: Package Specification; ComponentLink3URL: http://www.infineon.com/cms/packages/SMD_-_Surface_Mounted_Devices/P-PG-TDSON/P-PG-TDSON-08-01x_2x_3.html?__locale=en
footprint INF-PG-TDSON-8-1_V (TDSON, 8-Leads, Body 6.15x5.15mm, Pitch 1.27mm)
pins: 1 SOURCE, 2 SOURCE, 3 SOURCE, 4 GATE, 5 DRAIN, 6 DRAIN, 7 DRAIN, 8 DRAIN
text: 5, 6, 7, 8; 1, 2, 3

## BSC077N12NS3 G
designator Q?
N-Channel OptiMOS 3 Power-Transistor, 120 V VDS, 98 A ID, -55 to 150 degC, PG-TDSON-8-1, Reel, Green; Manufacturer: Infineon; PartNumber: BSC077N12NS3 G; Green: TRUE; ID (max): 98 A; IDpuls (max): 392 A; Polarity: N; Ptot (max): 139 W; QG: 66 nC; RDS (on) (max): 7.7 mOhm; Rth: 0.9 K/W; RthJA (max): 50 K/W; VDS (max): 120 V; VGS(th) (max): 4 V; VGS(th) (min): 2 V; DatasheetVersion: Rev. 2.5; PackageReference: PG-TDSON-8-1; PackageDescription: 8-Pin Plastic (Green) Thin Dual Small Outline Non-Leaded Package, 5.15 x 5.9 mm Body, 1.27 mm Pitch; Supplier 1: Mouser; Supplier Part Number 1: 726-BSC077N12NS3GXT; Supplier 2: Newark; Supplier Part Number 2: 79X1335; Supplier 3: Farnell; Supplier Part Number 3: 2432710; Supplier 4: Digi-Key; Supplier Part Number 4: BSC077N12NS3 GTR-ND; Supplier 5: Digi-Key; Supplier Part Number 5: BSC077N12NS3 GCT-ND; Supplier 6: Digi-Key; Supplier Part Number 6: BSC077N12NS3 GDKR-ND; Halogen-free: TRUE; Packing: Reel; RthJC (max): 0.9 K/W; Mounting Technology: Surface Mount; ComponentLink1Description: Manufacturer URL; ComponentLink1URL: http://www.infineon.com/; ComponentLink2Description: Datasheet; ComponentLink2URL: http://www.infineon.com/dgdl/BSC077N12NS3++Rev2.5.pdf?folderId=db3a304313b8b5a60113cee8763b02d7&fileId=db3a30432239cccd0122a7b3afe37d39; ComponentLink3Description: Package Specification; ComponentLink3URL: http://www.infineon.com/cms/packages/SMD_-_Surface_Mounted_Devices/P-PG-TDSON/P-PG-TDSON-08-01x_2x_3.html?__locale=en
footprint INF-PG-TDSON-8-1_V (TDSON, 8-Leads, Body 6.15x5.15mm, Pitch 1.27mm)
pins: 1 SOURCE, 2 SOURCE, 3 SOURCE, 4 GATE, 5 DRAIN, 6 DRAIN, 7 DRAIN, 8 DRAIN
text: 5, 6, 7, 8; 1, 2, 3

## BSC079N10NS G
designator Q?
N-Channel OptiMOS 2 Power-Transistor, 100 V VDS, 100 A ID, -55 to 150 degC, PG-TDSON-8-1, Reel, Green; Manufacturer: Infineon; PartNumber: BSC079N10NS G; Green: TRUE; ID (max): 100 A; IDpuls (max): 400 A; Polarity: N; Ptot (max): 156 W; QG: 66 nC; RDS (on) (max): 7.9 mOhm; Rth: 0.8 K/W; RthJA (max): 62 K/W; VDS (max): 100 V; VGS(th) (max): 4 V; VGS(th) (min): 2 V; DatasheetVersion: Rev. 1.05; PackageReference: PG-TDSON-8-1; PackageDescription: 8-Pin Plastic (Green) Thin Dual Small Outline Non-Leaded Package, 5.15 x 5.9 mm Body, 1.27 mm Pitch; Supplier 1: Mouser; Supplier Part Number 1: 726-BSC079N10NSG; Supplier 2: Digi-Key; Supplier Part Number 2: BSC079N10NS G-ND; Halogen-free: TRUE; Packing: Reel; RthJC (max): 0.8 K/W; Mounting Technology: Surface Mount; ComponentLink1Description: Manufacturer URL; ComponentLink1URL: http://www.infineon.com/; ComponentLink2Description: Datasheet; ComponentLink2URL: http://www.infineon.com/dgdl/BSC079N10NS+Rev15.pdf?folderId=db3a3043156fd5730115c7d50620107c&fileId=db3a3043163797a601167b174f951147; ComponentLink3Description: Package Specification; ComponentLink3URL: http://www.infineon.com/cms/packages/SMD_-_Surface_Mounted_Devices/P-PG-TDSON/P-PG-TDSON-08-01x_2x_3.html?__locale=en
footprint INF-PG-TDSON-8-1_V (TDSON, 8-Leads, Body 6.15x5.15mm, Pitch 1.27mm)
pins: 1 SOURCE, 2 SOURCE, 3 SOURCE, 4 GATE, 5 DRAIN, 6 DRAIN, 7 DRAIN, 8 DRAIN
text: 5, 6, 7, 8; 1, 2, 3

## BSC080N03LS G
designator Q?
N-Channel OptiMOS 3 Power-MOSFET, 30 V VDS, 53 A ID, -55 to 150 degC, PG-TDSON-8-1, Reel, Green; Manufacturer: Infineon; PartNumber: BSC080N03LS G; Green: TRUE; ID (max): 53 A; IDpuls (max): 212A; Polarity: N; Ptot (max): 35 W; QG: 7.5 nC; RDS (on) (max): 8 mOhm; RDS (on) (max) (@4.5V): 12 mOhm; Rth: 3.6 K/W; RthJA (max): 50 K/W; VDS (max): 30 V; VGS(th) (max): 2.2 V; VGS(th) (min): 1 V; DatasheetVersion: Rev. 1.25; PackageReference: PG-TDSON-8-1; PackageDescription: 8-Pin Plastic (Green) Thin Dual Small Outline Non-Leaded Package, 5.15 x 5.9 mm Body, 1.27 mm Pitch; Supplier 1: Mouser; Supplier Part Number 1: 726-BSC080N03LSG; Supplier 2: Newark; Supplier Part Number 2: 60R2502; Supplier 3: Farnell; Supplier Part Number 3: 1775454; Supplier 4: Digi-Key; Supplier Part Number 4: BSC080N03LSGINTR-ND; Supplier 5: Digi-Key; Supplier Part Number 5: BSC080N03LSGINCT-ND; Supplier 6: Digi-Key; Supplier Part Number 6: BSC080N03LSGINDKR-ND; Halogen-free: TRUE; Packing: Reel; RthJC (max): 3.6 K/W; Mounting Technology: Surface Mount; ComponentLink1Description: Manufacturer URL; ComponentLink1URL: http://www.infineon.com/; ComponentLink2Description: Datasheet; ComponentLink2URL: http://www.infineon.com/dgdl/BSC080N03LS_rev1.25.pdf?folderId=db3a304412b407950112b408e8c90004&fileId=db3a304412b407950112b427c2683cbe; ComponentLink3Description: Package Specification; ComponentLink3URL: http://www.infineon.com/cms/packages/SMD_-_Surface_Mounted_Devices/P-PG-TDSON/P-PG-TDSON-08-01x_2x_3.html?__locale=en
footprint INF-PG-TDSON-8-1_V (TDSON, 8-Leads, Body 6.15x5.15mm, Pitch 1.27mm)
pins: 1 SOURCE, 2 SOURCE, 3 SOURCE, 4 GATE, 5 DRAIN, 6 DRAIN, 7 DRAIN, 8 DRAIN
text: 5, 6, 7, 8; 1, 2, 3

## BSC080N03MS G
designator Q?
N-Channel OptiMOS 3 M-Series Power-MOSFET, 30 V VDS, 53 A ID, -55 to 150 degC, PG-TDSON-8-1, Reel, Green; Manufacturer: Infineon; PartNumber: BSC080N03MS G; Green: TRUE; ID (max): 53 A; IDpuls (max): 212 A; Polarity: N; Ptot (max): 35 W; QG: 9.9 nC; RDS (on) (max): 8 mOhm; RDS (on) (max) (@4.5V): 10.2 mOhm; Rth: 3.6 K/W; RthJA (max): 50 K/W; VDS (max): 30 V; VGS(th) (max): 2 V; VGS(th) (min): 1 V; DatasheetVersion: Rev. 1.15; PackageReference: PG-TDSON-8-1; PackageDescription: 8-Pin Plastic (Green) Thin Dual Small Outline Non-Leaded Package, 5.15 x 5.9 mm Body, 1.27 mm Pitch; Supplier 1: Mouser; Supplier Part Number 1: 726-BSC080N03MSG; Supplier 2: Newark; Supplier Part Number 2: 60R2503; Supplier 3: Farnell; Supplier Part Number 3: 1775456; Supplier 4: Digi-Key; Supplier Part Number 4: BSC080N03MSGINTR-ND; Supplier 5: Digi-Key; Supplier Part Number 5: BSC080N03MSGINCT-ND; Supplier 6: Digi-Key; Supplier Part Number 6: BSC080N03MSGINDKR-ND; Halogen-free: TRUE; Packing: Reel; RthJC (max): 3.6 K/W; Mounting Technology: Surface Mount; ComponentLink1Description: Manufacturer URL; ComponentLink1URL: http://www.infineon.com/; ComponentLink2Description: Datasheet; ComponentLink2URL: http://www.infineon.com/dgdl/BSC080N03MSG_rev1.15.pdf?folderId=db3a304313d846880113d91d60c500c4&fileId=db3a304313d846880113de6cfd390383; ComponentLink3Description: Package Specification; ComponentLink3URL: http://www.infineon.com/cms/packages/SMD_-_Surface_Mounted_Devices/P-PG-TDSON/P-PG-TDSON-08-01x_2x_3.html?__locale=en
footprint INF-PG-TDSON-8-1_V (TDSON, 8-Leads, Body 6.15x5.15mm, Pitch 1.27mm)
pins: 1 SOURCE, 2 SOURCE, 3 SOURCE, 4 GATE, 5 DRAIN, 6 DRAIN, 7 DRAIN, 8 DRAIN
text: 5, 6, 7, 8; 1, 2, 3

## BSC080P03LS G
designator Q?
P-Channel OptiMOS P Power-Transistor, -30 V VDS, -30 A ID, -55 to 150 degC, PG-TDSON-8-1, Reel, Green; Manufacturer: Infineon; PartNumber: BSC080P03LS G; Green: TRUE; ID (max): -30 A; IDpuls (max): -120 A; Pto t (max): 89 W; QG: -92 nC; RDS (on) (max): 8 mOhm; Rth: 50 K/W; RthJC (max): 1.4 K/W; VDS (max): -30 V; VGS(th) (max): -1 V; VGS(th) (min): -2.2 V; DatasheetVersion: Rev. 1.04; PackageReference: PG-TDSON-8-1; PackageDescription: 8-Pin Plastic (Green) Thin Dual Small Outline Non-Leaded Package, 5.15 x 5.9 mm Body, 1.27 mm Pitch; Supplier 1: Mouser; Supplier Part Number 1: 726-BSC080P03LSG; Supplier 2: Digi-Key; Supplier Part Number 2: BSC080P03LS GTR-ND; Supplier 3: Digi-Key; Supplier Part Number 3: BSC080P03LS GCT-ND; Supplier 4: Digi-Key; Supplier Part Number 4: BSC080P03LS GDKR-ND; Halogen-free: TRUE; Packing: Reel; Mounting Technology: Surface Mount; ComponentLink1Description: Manufacturer URL; ComponentLink1URL: http://www.infineon.com/; ComponentLink2Description: Datasheet; ComponentLink2URL: http://www.infineon.com/dgdl/BSC080P03LS+G_Rev14.pdf?folderId=db3a304314dca38901154a7313d21a66&fileId=db3a304314dca38901154a7800621a6c; ComponentLink3Description: Package Specification; ComponentLink3URL: http://www.infineon.com/cms/packages/SMD_-_Surface_Mounted_Devices/P-PG-TDSON/P-PG-TDSON-08-01x_2x_3.html?__locale=en
footprint INF-PG-TDSON-8-1_V (TDSON, 8-Leads, Body 6.15x5.15mm, Pitch 1.27mm)
pins: 1 SOURCE, 2 SOURCE, 3 SOURCE, 4 GATE, 5 DRAIN, 6 DRAIN, 7 DRAIN, 8 DRAIN
text: 5, 6, 7, 8; 1, 2, 3

## BSC082N10LS G
designator Q?
N-Channel OptiMOS 2 Power-Transistor, 100 V VDS, 100 A ID, -55 to 150 degC, PG-TDSON-8-1, Reel, Green; Manufacturer: Infineon; PartNumber: BSC082N10LS G; Green: TRUE; ID (max): 100 A; IDpuls (max): 400 A; Polarity: N; Ptot (max): 156 W; QG: 78 nC; RDS (on) (max): 8.2 mOhm; RDS (on) (max) (@4.5V): 11 mOhm; Rth: 0.8 K/W; RthJA (max): 62 K/W; VDS (max): 100 V; VGS(th) (max): 2.4 V; VGS(th) (min): 1.2 V; DatasheetVersion: Rev. 1.07; PackageReference: PG-TDSON-8-1; PackageDescription: 8-Pin Plastic (Green) Thin Dual Small Outline Non-Leaded Package, 5.15 x 5.9 mm Body, 1.27 mm Pitch; Supplier 1: Mouser; Supplier Part Number 1: 726-BSC082N10LSG; Supplier 2: Digi-Key; Supplier Part Number 2: BSC082N10LS GTR-ND; Supplier 3: Digi-Key; Supplier Part Number 3: BSC082N10LS GCT-ND; Supplier 4: Digi-Key; Supplier Part Number 4: BSC082N10LS GDKR-ND; Halogen-free: TRUE; Packing: Reel; RthJC (max): 0.8 K/W; Mounting Technology: Surface Mount; ComponentLink1Description: Manufacturer URL; ComponentLink1URL: http://www.infineon.com/; ComponentLink2Description: Datasheet; ComponentLink2URL: http://www.infineon.com/dgdl/BSC082N10LS+Rev17.pdf?folderId=db3a3043156fd5730115c7d50620107c&fileId=db3a3043163797a6011647faad240719; ComponentLink3Description: Package Specification; ComponentLink3URL: http://www.infineon.com/cms/packages/SMD_-_Surface_Mounted_Devices/P-PG-TDSON/P-PG-TDSON-08-01x_2x_3.html?__locale=en
footprint INF-PG-TDSON-8-1_V (TDSON, 8-Leads, Body 6.15x5.15mm, Pitch 1.27mm)
pins: 1 SOURCE, 2 SOURCE, 3 SOURCE, 4 GATE, 5 DRAIN, 6 DRAIN, 7 DRAIN, 8 DRAIN
text: 5, 6, 7, 8; 1, 2, 3

## BSC084P03NS3 G
designator Q?
P-Channel OptiMOS P3 Power-Transistor, -30 V VDS, -78.6 A ID, -55 to 150 degC, PG-TDSON-8-1, Reel, Green; Manufacturer: Infineon; PartNumber: BSC084P03NS3 G; Green: TRUE; ID (max): -78.6 A; IDpuls (max): -200 A; Pto t (max): 69 W; QG: 43 nC; RDS (on) (max): 8.4 mOhm; Rth: 1.8 K/W; VDS (max): -30 V; VGS(th) (max): -1.9 V; VGS(th) (min): -3.1 V; DatasheetVersion: Rev. 2.1; PackageReference: PG-TDSON-8-1; PackageDescription: 8-Pin Plastic (Green) Thin Dual Small Outline Non-Leaded Package, 5.15 x 5.9 mm Body, 1.27 mm Pitch; Supplier 1: Mouser; Supplier Part Number 1: 726-BSC084P03NS3G; Supplier 2: Digi-Key; Supplier Part Number 2: BSC084P03NS3 GTR-ND; Supplier 3: Digi-Key; Supplier Part Number 3: BSC084P03NS3 GCT-ND; Supplier 4: Digi-Key; Supplier Part Number 4: BSC084P03NS3 GDKR-ND; Halogen-free: TRUE; Packing: Reel; RthJC (max): 1.8 K/W; Mounting Technology: Surface Mount; ComponentLink1Description: Manufacturer URL; ComponentLink1URL: http://www.infineon.com/; ComponentLink2Description: Datasheet; ComponentLink2URL: http://www.infineon.com/dgdl/BSC084P03NS3+G_2.1.pdf?folderId=db3a304314dca38901154a72e3951a65&fileId=db3a304320896aa20120c83fdcd7326c; ComponentLink3Description: Package Specification; ComponentLink3URL: http://www.infineon.com/cms/packages/SMD_-_Surface_Mounted_Devices/P-PG-TDSON/P-PG-TDSON-08-01x_2x_3.html?__locale=en
footprint INF-PG-TDSON-8-1_V (TDSON, 8-Leads, Body 6.15x5.15mm, Pitch 1.27mm)
pins: 1 SOURCE, 2 SOURCE, 3 SOURCE, 4 GATE, 5 DRAIN, 6 DRAIN, 7 DRAIN, 8 DRAIN
text: 5, 6, 7, 8; 1, 2, 3

## BSC084P03NS3E G
designator Q?
P-Channel OptiMOS P3 Power-Transistor, -30 V VDS, -78.6 A ID, -55 to 150 degC, PG-TDSON-8-1, Reel, Green; Manufacturer: Infineon; PartNumber: BSC084P03NS3E G; Green: TRUE; ID (max): -78.6 A; IDpuls (max): -200 A; Pto t (max): 69 W; QG: 43 nC; RDS (on) (max): 8.4 mOhm; Rth: 1.8 K/W; VDS (max): -30 V; VGS(th) (max): -1.9 V; VGS(th) (min): -3.1 V; DatasheetVersion: Rev. 2.1; PackageReference: PG-TDSON-8-1; PackageDescription: 8-Pin Plastic (Green) Thin Dual Small Outline Non-Leaded Package, 5.15 x 5.9 mm Body, 1.27 mm Pitch; Supplier 1: Mouser; Supplier Part Number 1: 726-BSC084P03NS3EG; Supplier 2: Digi-Key; Supplier Part Number 2: BSC084P03NS3E GTR-ND; Supplier 3: Digi-Key; Supplier Part Number 3: BSC084P03NS3E GCT-ND; Supplier 4: Digi-Key; Supplier Part Number 4: BSC084P03NS3E GDKR-ND; Halogen-free: TRUE; Packing: Reel; RthJC (max): 1.8 K/W; Mounting Technology: Surface Mount; ComponentLink1Description: Manufacturer URL; ComponentLink1URL: http://www.infineon.com/; ComponentLink2Description: Datasheet; ComponentLink2URL: http://www.infineon.com/dgdl/BSC084P03NS3E+G_2.1.pdf?folderId=db3a304314dca38901154a72e3951a65&fileId=db3a304320896aa20120c84ef6ec327c; ComponentLink3Description: Package Specification; ComponentLink3URL: http://www.infineon.com/cms/packages/SMD_-_Surface_Mounted_Devices/P-PG-TDSON/P-PG-TDSON-08-01x_2x_3.html?__locale=en
footprint INF-PG-TDSON-8-1_V (TDSON, 8-Leads, Body 6.15x5.15mm, Pitch 1.27mm)
pins: 1 S, 2 S, 3 S, 4 G, 5 D, 6 D, 7 D, 8 D
text: 5, 6, 7, 8; 1, 2, 3

## BSC090N03LS G
designator Q?
N-Channel OptiMOS 3 Power-MOSFET, 30 V VDS, 48 A ID, -55 to 150 degC, PG-TDSON-8-1, Reel, Green; Manufacturer: Infineon; PartNumber: BSC090N03LS G; Green: TRUE; ID (max): 48 A; IDpuls (max): 192 A; Polarity: N; Ptot (max): 32 W; QG: 6.7 nC; RDS (on) (max): 9 mOhm; RDS (on) (max) (@4.5V): 13.3 mOhm; Rth: 3.9 K/W; RthJA (max): 50 K/W; VDS (max): 30 V; VGS(th) (max): 2.2 V; VGS(th) (min): 1 V; DatasheetVersion: Rev. 1.6; PackageReference: PG-TDSON-8-1; PackageDescription: 8-Pin Plastic (Green) Thin Dual Small Outline Non-Leaded Package, 5.15 x 5.9 mm Body, 1.27 mm Pitch; Supplier 1: Mouser; Supplier Part Number 1: 726-BSC090N03LSG; Supplier 2: Digi-Key; Supplier Part Number 2: BSC090N03LSGINTR-ND; Supplier 3: Digi-Key; Supplier Part Number 3: BSC090N03LSGINCT-ND; Supplier 4: Digi-Key; Supplier Part Number 4: BSC090N03LSGINDKR-ND; Halogen-free: TRUE; Packing: Reel; RthJC (max): 3.9 K/W; Mounting Technology: Surface Mount; ComponentLink1Description: Manufacturer URL; ComponentLink1URL: http://www.infineon.com/; ComponentLink2Description: Datasheet; ComponentLink2URL: http://www.infineon.com/dgdl/BSC090N03LS_rev1.6.pdf?folderId=db3a304412b407950112b408e8c90004&fileId=db3a304412b407950112b4276e193c2f; ComponentLink3Description: Package Specification; ComponentLink3URL: http://www.infineon.com/cms/packages/SMD_-_Surface_Mounted_Devices/P-PG-TDSON/P-PG-TDSON-08-01x_2x_3.html?__locale=en
footprint INF-PG-TDSON-8-1_V (TDSON, 8-Leads, Body 6.15x5.15mm, Pitch 1.27mm)
pins: 1 SOURCE, 2 SOURCE, 3 SOURCE, 4 GATE, 5 DRAIN, 6 DRAIN, 7 DRAIN, 8 DRAIN
text: 5, 6, 7, 8; 1, 2, 3

## BSC090N03MS G
designator Q?
N-Channel OptiMOS 3 M-Series Power-MOSFET, 30 V VDS, 48 A ID, -55 to 150 degC, PG-TDSON-8-1, Reel, Green; Manufacturer: Infineon; PartNumber: BSC090N03MS G; Green: TRUE; ID (max): 48 A; IDpuls (max): 192 A; Polarity: N; Ptot (max): 32 W; QG: 18 nC; RDS (on) (max): 9 mOhm; RDS (on) (max) (@4.5V): 11.2 mOhm; Rth: 3.9 K/W; RthJA (max): 50 K/W; VDS (max): 30 V; VGS(th) (max): 2 V; VGS(th) (min): 1 V; DatasheetVersion: Rev. 1.16; PackageReference: PG-TDSON-8-1; PackageDescription: 8-Pin Plastic (Green) Thin Dual Small Outline Non-Leaded Package, 5.15 x 5.9 mm Body, 1.27 mm Pitch; Supplier 1: Mouser; Supplier Part Number 1: 726-BSC090N03MSG; Supplier 2: Digi-Key; Supplier Part Number 2: BSC090N03MSGINTR-ND; Supplier 3: Digi-Key; Supplier Part Number 3: BSC090N03MSGINCT-ND; Supplier 4: Digi-Key; Supplier Part Number 4: BSC090N03MSGINDKR-ND; Halogen-free: TRUE; Packing: Reel; RthJC (max): 3.9 K/W; Mounting Technology: Surface Mount; ComponentLink1Description: Manufacturer URL; ComponentLink1URL: http://www.infineon.com/; ComponentLink2Description: Datasheet; ComponentLink2URL: http://www.infineon.com/dgdl/BSC090N03MSG_rev1.16.pdf?folderId=db3a304313d846880113d91d60c500c4&fileId=db3a304313d846880113de715bb50390; ComponentLink3Description: Package Specification; ComponentLink3URL: http://www.infineon.com/cms/packages/SMD_-_Surface_Mounted_Devices/P-PG-TDSON/P-PG-TDSON-08-01x_2x_3.html?__locale=en
footprint INF-PG-TDSON-8-1_V (TDSON, 8-Leads, Body 6.15x5.15mm, Pitch 1.27mm)
pins: 1 SOURCE, 2 SOURCE, 3 SOURCE, 4 GATE, 5 DRAIN, 6 DRAIN, 7 DRAIN, 8 DRAIN
text: 5, 6, 7, 8; 1, 2, 3